# Altium footprint library NEON-9.PcbLib: 1 footprints
Each footprint in its own frame and in the unit in brackets; x right, y up, seen from the top. Pads: shape width x height; smd on the part's side, far side on the other; paste and mask are expansions set on the pad; w line width, h text height; cw(c..) or ccw(c..) is an arc to the next point about the centre after c.
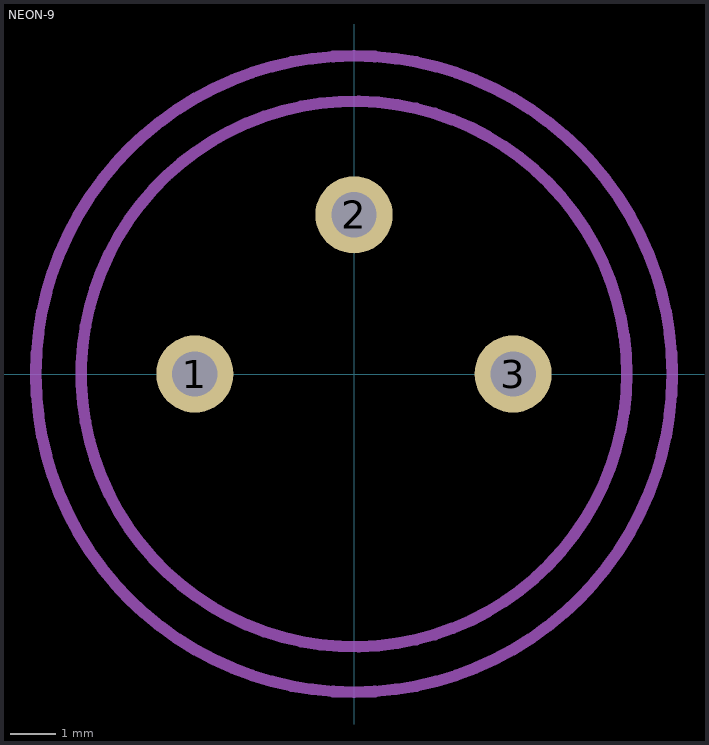
[diagram p0: the footprint, top view; thin cyan lines are the x and y axes]

## NEON-9 [mm]
height 67
pads (3):
  round 1.7 hole 1: 1(-3.5,0) 2(0,3.5) 3(3.5,0)
Mechanical 1:
  circle w0.254: c0,0 r6
  circle w0.254: c0,0 r7
3D body "NEON.step": height 78, standoff 12, extent -7,-7 7,7
3D body: height 0.4, standoff -4.3, extent 2.954,-0.549 4.05,0.549
3D body: height 11.8, standoff 0.3, extent 2.756,-0.748 4.25,0.749
3D body: height 0.4, standoff -4.3, extent -0.546,2.951 0.55,4.049
3D body: height 11.8, standoff 0.3, extent -0.744,2.752 0.75,4.249
3D body: height 0.4, standoff -4.3, extent -4.046,-0.549 -2.95,0.549
3D body: height 11.8, standoff 0.3, extent -4.244,-0.748 -2.75,0.749